# Altium footprint library PCB - LEADLESS - DFN - SENSIRION STS-30-DIS.PcbLib: 1 footprints
Each footprint in its own frame and in the unit in brackets; x right, y up, seen from the top. Pads: shape width x height; smd on the part's side, far side on the other; paste and mask are expansions set on the pad; w line width, h text height; cw(c..) or ccw(c..) is an arc to the next point about the centre after c.
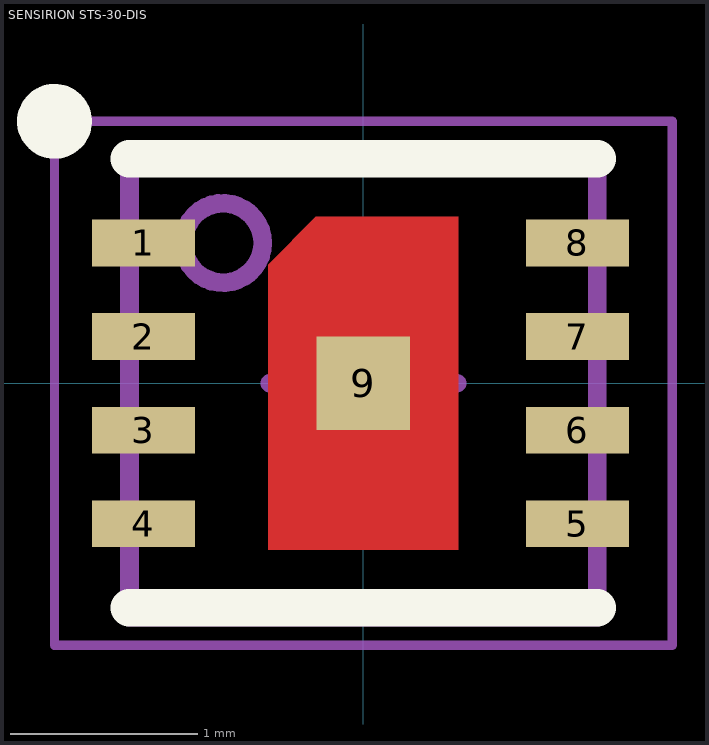
[diagram p0: the footprint, top view; thin cyan lines are the x and y axes]

## SENSIRION STS-30-DIS [mm] "Temperature Sensor Digital - Local 0°C ~ 65°C, 8 Leads, Body 2.5x2.5mm, Package 8-VFDFN Exposed Pad"
height 1
pads (9):
  rect 0.55x0.25 smd: 1(-1.175,0.75) 2(-1.175,0.25) 3(-1.175,-0.25) 4(-1.175,-0.75) 5(1.143,-0.75) 6(1.143,-0.25) 7(1.143,0.25) 8(1.143,0.75)
  rect 0.5x0.5 smd paste+0 mask+0: 9(0,0)
Top Layer:
  region: -0.508,-0.889 -0.508,0.635 -0.254,0.889 0.508,0.889 0.508,-0.889
Top Overlay:
  circle w0.2: c-1.65,1.4 r0.1
  lines w0.2: -1.25,-1.2 1.25,-1.2 ; -1.25,1.2 1.25,1.2
Mechanical 13:
  circle w0.1: c-0.75,0.75 r0.212
  lines w0.1: -1.25,-1.25 1.25,-1.25 1.25,1.2 -1.25,1.2 -1.25,-1.25
Mechanical 15 (Mech15):
  lines w0.05: -1.65,-1.4 -1.65,1.4 1.65,1.4 1.65,-1.4 -1.65,-1.4
  lines w0.1: -0.5,0 0,0 ; 0,-0.5 0,0 ; 0,0.5 0,0 ; 0.5,0 0,0
3D body: height 1, standoff 0, extent -1.25,-1.25 1.25,1.25
3D body: height 1, standoff 0, extent 0,0 0,0
3D body: height 1.09, standoff -0.01, extent 0,0 0,0